# Altium footprint library Capacitors_rus.PCBLIB: 349 footprints (part 3 of 22)
Each footprint in its own frame and in the unit in brackets; x right, y up, seen from the top. Pads: shape width x height; smd on the part's side, far side on the other; paste and mask are expansions set on the pad; w line width, h text height; cw(c..) or ccw(c..) is an arc to the next point about the centre after c.
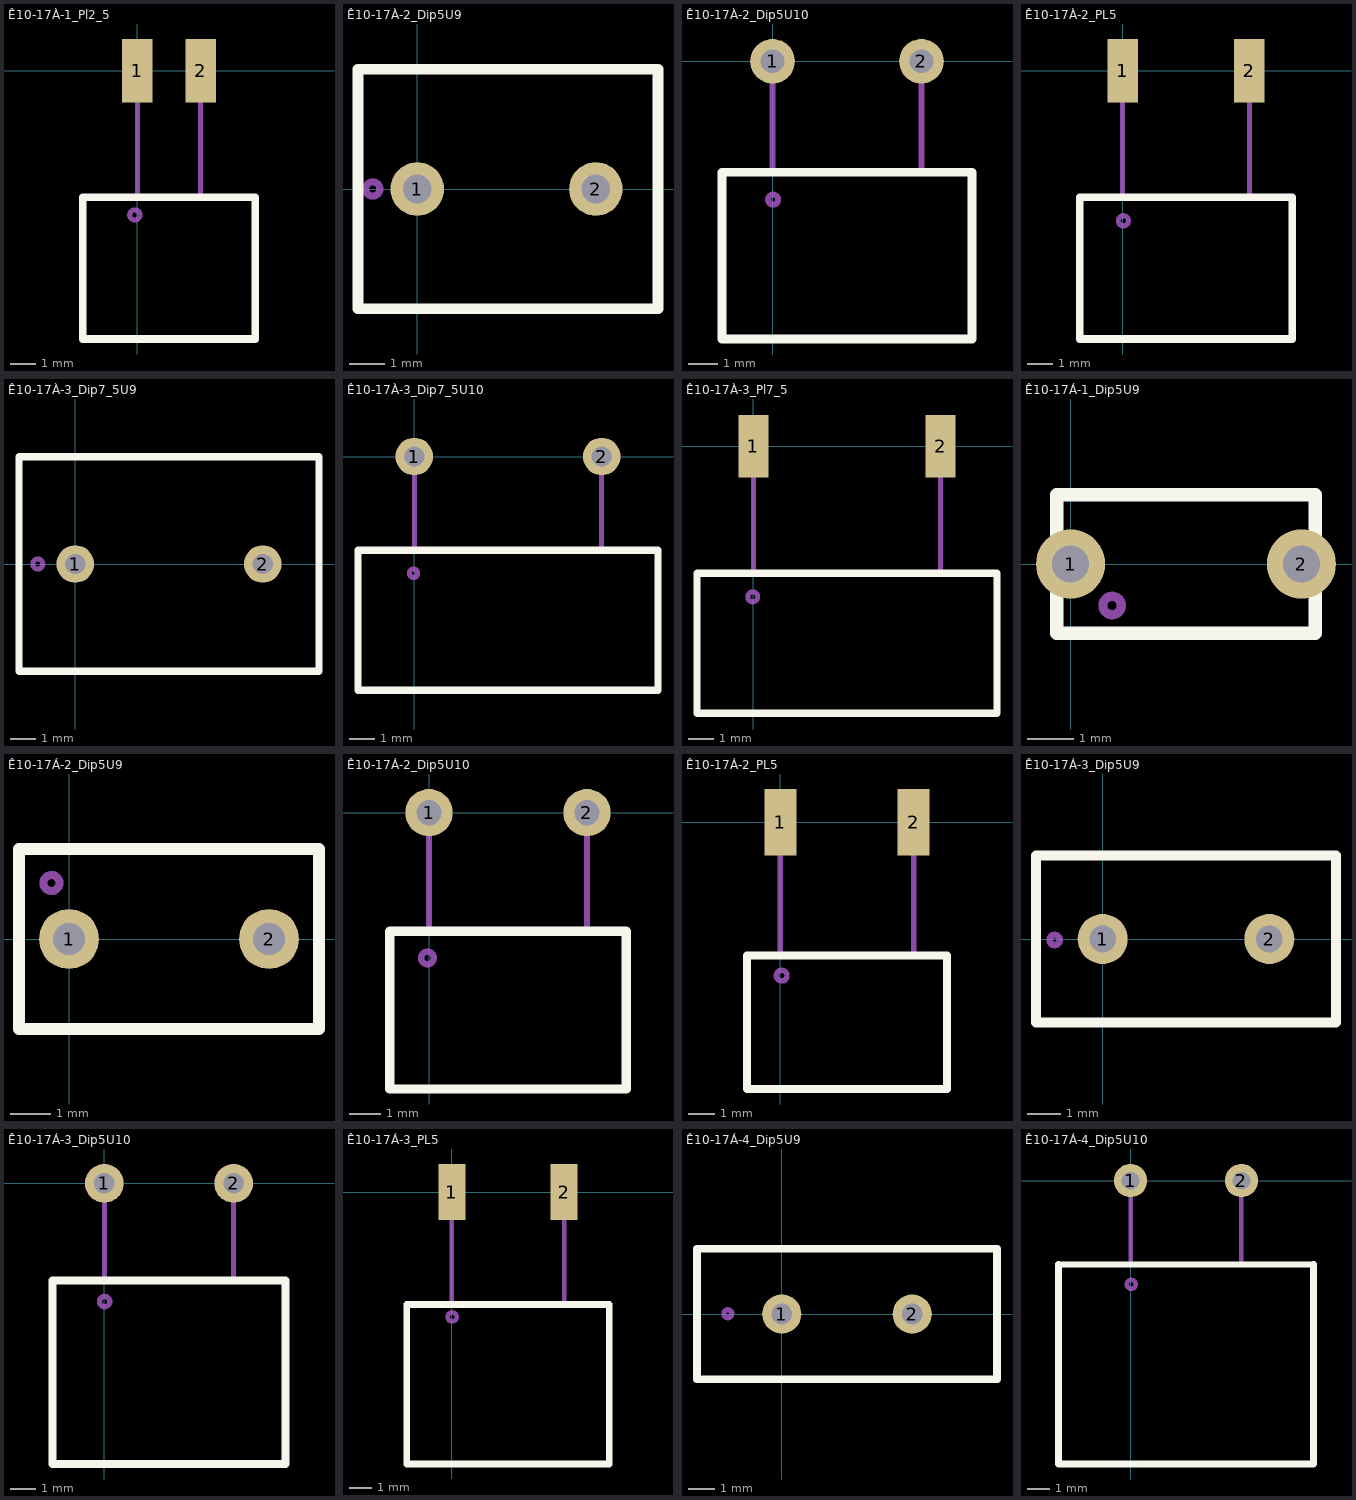
[diagram p2: the footprints below, top view; thin cyan lines are the x and y axes]

## Ê10-17À-1_Pl2_5 [mm]
pads (2):
  rect 1.2x2.5 smd: 1(0,0) 2(2.5,0)
Top Overlay:
  lines w0.3: -2.15,-10.6 -2.15,-5 4.65,-5 4.65,-10.6 -2.15,-10.6
Mechanical 1:
  circle w0.2: c-0.1,-5.7 r0.2
  lines w0.2: 0,-5 0,0 ; 2.5,-5 2.5,0 ; -2.15,-10.6 -2.15,-5 4.65,-5 4.65,-10.6 -2.15,-10.6
  text ".Designator" at -0.67,-8.15 h1.5

## Ê10-17À-2_Dip5U9 [mm]
pads (2):
  round 1.5 hole 0.8: 1(0,0) 2(5,0)
Top Overlay:
  lines w0.3: -1.66,-3.35 -1.66,3.35 6.74,3.35 6.74,-3.35 -1.66,-3.35
Mechanical 1:
  circle w0.2: c-1.25,0 r0.2
  lines w0.2: -1.66,-3.35 -1.66,3.35 6.74,3.35 6.74,-3.35 -1.66,-3.35
  text ".Designator" at 0.63,-0.35 h1.5

## Ê10-17À-2_Dip5U10 [mm]
pads (2):
  round 1.5 hole 0.8: 1(0,0) 2(5,0)
Top Overlay:
  lines w0.3: -1.7,-9.325 -1.7,-3.725 6.7,-3.725 6.7,-9.325 -1.7,-9.325
Mechanical 1:
  lines w0.2: 0,-3.75 0,0 ; 0.186,-4.67 cw(c0.02,-4.645) 0.188,-4.645 ; 5,-3.75 5,0 ; -1.7,-9.325 -1.7,-3.725 6.7,-3.725 6.7,-9.325 -1.7,-9.325
  text ".Designator" at 0.08,-7 h1.5

## Ê10-17À-2_PL5 [mm]
pads (2):
  rect 1.2x2.5 smd: 1(0,0) 2(5,0)
Top Overlay:
  lines w0.3: -1.7,-10.59 -1.7,-4.99 6.7,-4.99 6.7,-10.59 -1.7,-10.59
Mechanical 1:
  circle w0.2: c0.03,-5.925 r0.2
  lines w0.2: 0,-5 0,0 ; 5,-5 5,0 ; -1.7,-10.59 -1.7,-4.99 6.7,-4.99 6.7,-10.59 -1.7,-10.59
  text ".Designator" at 0.43,-8.25 h1.5

## Ê10-17À-3_Dip7_5U9 [mm]
pads (2):
  round 1.5 hole 0.8: 1(0,0) 2(7.5,0)
Top Overlay:
  lines w0.3: -2.25,-4.3 -2.25,4.3 9.75,4.3 9.75,-4.3 -2.25,-4.3
Mechanical 1:
  circle w0.2: c-1.5,0 r0.2
  lines w0.2: -2.25,-4.3 -2.25,4.3 9.75,4.3 9.75,-4.3 -2.25,-4.3
  text ".Designator" at 1.88,-0.4 h1.5

## Ê10-17À-3_Dip7_5U10 [mm]
pads (2):
  round 1.5 hole 0.8: 1(0,0) 2(7.5,0)
Top Overlay:
  lines w0.3: -2.25,-9.35 9.75,-9.35 9.75,-3.75 -2.25,-3.75 -2.25,-9.35
Mechanical 1:
  lines w0.2: 0,-3.775 0,0 ; 0.136,-4.695 cw(c-0.03,-4.67) 0.138,-4.67 ; 7.5,-3.8 7.5,0 ; -2.25,-9.35 9.75,-9.35 9.75,-3.75 -2.25,-3.75 -2.25,-9.35
  text ".Designator" at 0.88,-7.45 h1.5

## Ê10-17À-3_Pl7_5 [mm]
pads (2):
  rect 1.2x2.5 smd: 1(0,0) 2(7.5,0)
Top Overlay:
  lines w0.3: -2.25,-10.675 9.75,-10.675 9.75,-5.075 -2.25,-5.075 -2.25,-10.675
Mechanical 1:
  circle w0.2: c-0.02,-6.025 r0.2
  lines w0.2: 0,-5.075 0,0 ; 7.5,-5.075 7.5,0.15 ; -2.25,-10.675 9.75,-10.675 9.75,-5.075 -2.25,-5.075 -2.25,-10.675
  text ".Designator" at 0.93,-8.5 h1.5

## Ê10-17Á-1_Dip5U9 [mm]
pads (2):
  round 1.5 hole 0.8: 1(0,0) 2(5,0)
Top Overlay:
  lines w0.3: -0.3,-1.5 5.3,-1.5 5.3,1.5 -0.3,1.5 -0.3,-1.5
Mechanical 1:
  circle w0.2: c0.9,-0.9 r0.2
  lines w0.2: -0.3,-1.5 5.3,-1.5 5.3,1.5 -0.3,1.5 -0.3,-1.5
  text ".Designator" at 1.18,-0.25 h1.5

## Ê10-17Á-2_Dip5U9 [mm]
pads (2):
  round 1.5 hole 0.8: 1(0,0) 2(5,0)
Top Overlay:
  lines w0.3: -1.25,-2.25 -1.25,2.25 6.25,2.25 6.25,-2.25 -1.25,-2.25
Mechanical 1:
  circle w0.2: c-0.44,1.4 r0.2
  lines w0.2: -1.25,-2.25 -1.25,2.25 6.25,2.25 6.25,-2.25 -1.25,-2.25
  text ".Designator" at 1.18,-0.5 h1.5

## Ê10-17Á-2_Dip5U10 [mm]
pads (2):
  round 1.5 hole 0.8: 1(0,0) 2(5,0)
Top Overlay:
  lines w0.3: -1.25,-8.75 -1.25,-3.75 6.25,-3.75 6.25,-8.75 -1.25,-8.75
Mechanical 1:
  circle w0.2: c-0.05,-4.6 r0.2
  lines w0.2: 0,-3.75 0,0 ; 5,-3.75 5,0 ; -1.25,-8.75 -1.25,-3.75 6.25,-3.75 6.25,-8.75 -1.25,-8.75
  text ".Designator" at 0.33,-6.7 h1.5

## Ê10-17Á-2_PL5 [mm]
pads (2):
  rect 1.2x2.5 smd: 1(0,0) 2(5,0)
Top Overlay:
  lines w0.3: -1.25,-10 -1.25,-5 6.25,-5 6.25,-10 -1.25,-10
Mechanical 1:
  circle w0.2: c0.05,-5.75 r0.2
  lines w0.2: 0,-5 0,0 ; 5,-4.975 5,0 ; -1.25,-10 -1.25,-5 6.25,-5 6.25,-10 -1.25,-10
  text ".Designator" at 0.53,-7.95 h1.5

## Ê10-17Á-3_Dip5U9 [mm]
pads (2):
  round 1.5 hole 0.8: 1(0,0) 2(5,0)
Top Overlay:
  lines w0.3: -2,-2.5 -2,2.5 7,2.5 7,-2.5 -2,-2.5
Mechanical 1:
  circle w0.2: c-1.44,-0.03 r0.15
  lines w0.2: -2,-2.5 -2,2.5 7,2.5 7,-2.5 -2,-2.5
  text ".Designator" at 0.93,-0.35 h1.5

## Ê10-17Á-3_Dip5U10 [mm]
pads (2):
  round 1.5 hole 0.8: 1(0,0) 2(5,0)
Top Overlay:
  lines w0.3: -2,-10.85 -2,-3.75 7,-3.75 7,-10.85 -2,-10.85
Mechanical 1:
  circle w0.2: c0.01,-4.57 r0.2
  lines w0.2: 0,-3.77 0,0 ; 5,-3.77 5,0 ; -2,-10.85 -2,-3.75 7,-3.75 7,-10.85 -2,-10.85
  text ".Designator" at 0.08,-7.8 h1.5

## Ê10-17Á-3_PL5 [mm]
pads (2):
  rect 1.2x2.5 smd: 1(0,0) 2(5,0)
Top Overlay:
  lines w0.3: -2,-12.1 7,-12.1 7,-5 -2,-5 -2,-12.1
Mechanical 1:
  circle w0.2: c0.015,-5.555 r0.2
  lines w0.2: 0,-5.02 0,0 ; 5,-5.02 5,0 ; -2,-12.1 7,-12.1 7,-5 -2,-5 -2,-12.1
  text ".Designator" at 0.53,-9 h1.5

## Ê10-17Á-4_Dip5U9 [mm]
pads (2):
  round 1.5 hole 0.8: 1(0,0) 2(5,0)
Top Overlay:
  lines w0.3: -3.25,-2.5 8.25,-2.5 8.25,2.5 -3.25,2.5 -3.25,-2.5
Mechanical 1:
  circle w0.2: c-2.07,0.01 r0.15
  lines w0.2: -3.25,2.5 8.25,2.5 8.25,-2.5 -3.24,-2.5 -3.25,2.5
  text ".Designator" at 0.23,-0.3 h1.5

## Ê10-17Á-4_Dip5U10 [mm]
pads (2):
  round 1.5 hole 0.8: 1(0,0) 2(5,0)
Top Overlay:
  lines w0.3: -3.25,-3.785 8.25,-3.775 8.25,-12.775 -3.25,-12.775 -3.25,-3.775
Mechanical 1:
  circle w0.2: c0.03,-4.675 r0.2
  lines w0.2: 0,-3.805 0,0 ; 5,-3.795 5,0 ; -3.25,-12.775 -3.25,-3.775 8.25,-3.775 8.25,-12.775 -3.25,-12.775
  text ".Designator" at 0.03,-8.9 h1.5